# Altium footprint library WANGYU92100PcbLib.PcbLib: 392 footprints (part 4 of 25)
Each footprint in its own frame and in the unit in brackets; x right, y up, seen from the top. Pads: shape width x height; smd on the part's side, far side on the other; paste and mask are expansions set on the pad; w line width, h text height; cw(c..) or ccw(c..) is an arc to the next point about the centre after c.
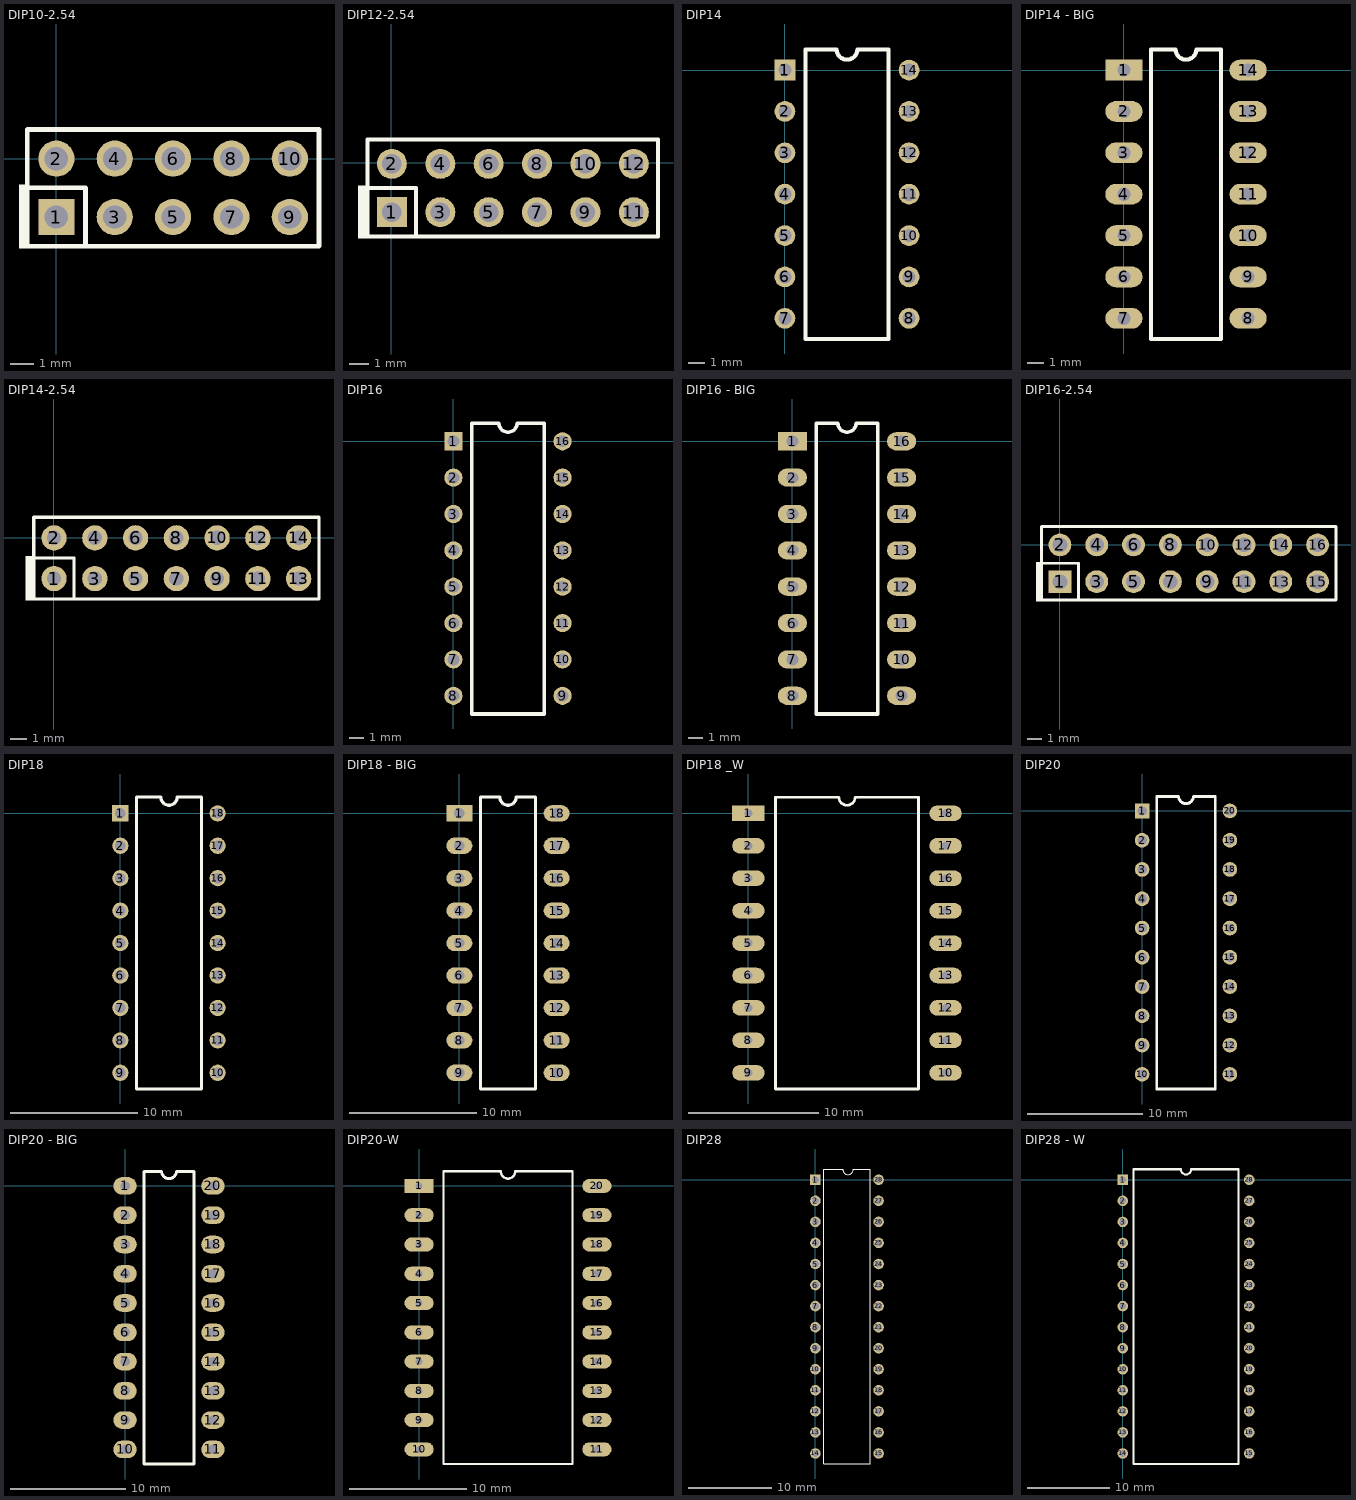
[diagram p3: the footprints below, top view; thin cyan lines are the x and y axes]

## DIP10-2.54 [mil]
pads (10):
  rect 62x62 hole 40: 1(0,-100)
  round 62 hole 40: 2(0,0) 3(100,-100) 4(100,0) 5(200,-100) 6(200,0) 7(300,-100) 8(300,0) 9(400,-100) 10(400,0)
Top Overlay:
  rectangle: -64,-154 -50,-44
  lines w8: -50,-50 50,-50 50,-150 ; -50,-150 450,-150 450,50 -50,50 -50,-150

## DIP12-2.54 [mil]
pads (12):
  rect 62x62 hole 40: 1(1,-102)
  round 62 hole 40: 2(1,-2) 3(101,-102) 4(101,-2) 5(201,-102) 6(201,-2) 7(301,-102) 8(301,-2) 9(401,-102) 10(401,-2) 11(501,-102) 12(501,-2)
Top Overlay:
  rectangle: -69,-156 -49,-47
  lines w8: -49,-52 51,-52 51,-151 ; -49,-152 -49,48 551,48 551,-152 -49,-152

## DIP14 [mil]
pads (14):
  rect 50x50 hole 32: 1(0,0)
  round 50 hole 32: 2(0,-100) 3(0,-200) 4(0,-300) 5(0,-400) 6(0,-500) 7(0,-600) 8(300,-600) 9(300,-500) 10(300,-400) 11(300,-300) 12(300,-200) 13(300,-100) 14(300,0)
Top Overlay:
  lines w10: 50,-650 250,-650 250,50 175,50 cw(c150,50) 125,50 50,50 50,-650

## DIP14 - BIG [mil]
pads (14):
  rect 90x50 hole 32: 1(0,0)
  oval 90x50 hole 32: 2(0,-100) 3(0,-200) 4(0,-300) 5(0,-400) 6(0,-500) 7(0,-600) 8(300,-600) 9(300,-500) 10(300,-400) 11(300,-300) 12(300,-200) 13(300,-100) 14(300,0)
Top Overlay:
  lines w10: 65,-650 65,50 125,50 ccw(c150,50) 175,50 235,50 235,-650 65,-650

## DIP14-2.54 [mil]
pads (14):
  round 62 hole 35: 1(1,-99.67) 2(1,0.33) 3(101,-99.67) 4(101,0.33) 5(201,-99.67) 6(201,0.33) 7(301,-99.67) 8(301,0.33) 9(401,-99.67) 10(401,0.33) 11(501,-99.67) 12(501,0.33) 13(601,-99.67) 14(601,0.33)
Top Overlay:
  rectangle: -69,-153.67 -49,-44
  lines w8: -49,-49 49,-49 50,-50 50,-148.67 49,-149.67 ; -49,-149.67 651,-149.67 651,51 -49,51 -49,-149.67

## DIP16 [mil]
pads (16):
  rect 50x50 hole 32: 1(0,0)
  round 50 hole 32: 2(0,-100) 3(0,-200) 4(0,-300) 5(0,-400) 6(0,-500) 7(0,-600) 8(0,-700) 9(300,-700) 10(300,-600) 11(300,-500) 12(300,-400) 13(300,-300) 14(300,-200) 15(300,-100) 16(300,0)
Top Overlay:
  lines w10: 50,-750 250,-750 250,50 175,50 cw(c150,50) 125,50 50,50 50,-750

## DIP16 - BIG [mil]
pads (16):
  rect 80x50 hole 32: 1(0,0)
  oval 80x50 hole 32: 2(0,-100) 3(0,-200) 4(0,-300) 5(0,-400) 6(0,-500) 7(0,-600) 8(0,-700) 9(300,-700) 10(300,-600) 11(300,-500) 12(300,-400) 13(300,-300) 14(300,-200) 15(300,-100) 16(300,0)
Top Overlay:
  lines w10: 65,-750 235,-750 235,50 175,50 cw(c150,50) 125,50 65,50 65,-750

## DIP16-2.54 [mil]
pads (16):
  rect 62x62 hole 40: 1(0,-100)
  round 62 hole 40: 2(0,0) 3(100,-100) 4(100,0) 5(200,-100) 6(200,0) 7(300,-100) 8(300,0) 9(400,-100) 10(400,0) 11(500,-100) 12(500,0) 13(600,-100) 14(600,0) 15(700,-100) 16(700,0)
Top Overlay:
  rectangle: -65,-154 -50,-46
  lines w8: -50,-50 50,-50 50,-150 ; -50,-150 -50,50 750,50 750,-150 -50,-150

## DIP18 [mil]
pads (18):
  rect 50x50 hole 32: 1(0,0)
  round 50 hole 32: 2(0,-100) 3(0,-200) 4(0,-300) 5(0,-400) 6(0,-500) 7(0,-600) 8(0,-700) 9(0,-800) 10(300,-800) 11(300,-700) 12(300,-600) 13(300,-500) 14(300,-400) 15(300,-300) 16(300,-200) 17(300,-100) 18(300,0)
Top Overlay:
  lines w10: 50,-850 50,50 125,50 ccw(c150,50) 175,50 250,50 250,-850 50,-850

## DIP18 - BIG [mil]
pads (18):
  rect 80x50 hole 32: 1(0,0)
  oval 80x50 hole 32: 2(0,-100) 3(0,-200) 4(0,-300) 5(0,-400) 6(0,-500) 7(0,-600) 8(0,-700) 9(0,-800) 10(300,-800) 11(300,-700) 12(300,-600) 13(300,-500) 14(300,-400) 15(300,-300) 16(300,-200) 17(300,-100) 18(300,0)
Top Overlay:
  lines w10: 65,-850 235,-850 235,50 175,50 cw(c150,50) 125,50 65,50 65,-850

## DIP18 _W [mm]
pads (18):
  rect 2.5x1.2 hole 0.6: 1(0,0)
  oval 2.5x1.2 hole 0.6: 2(0,-2.5) 3(0,-5) 4(0,-7.5) 5(0,-10) 6(0,-12.5) 7(0,-15) 8(0,-17.5) 9(0,-20) 10(15.2,-20) 11(15.2,-17.5) 12(15.2,-15) 13(15.2,-12.5) 14(15.2,-10) 15(15.2,-7.5) 16(15.2,-5) 17(15.2,-2.5) 18(15.2,0)
Top Overlay:
  lines w0.2: 2.085,-21.25 13.115,-21.25 13.115,1.25 8.225,1.25 cw(c7.6,1.25) 6.975,1.25 2.085,1.25 2.085,-21.25

## DIP20 [mil]
pads (20):
  rect 50x50 hole 32: 1(0,0)
  round 50 hole 32: 2(0,-100) 3(0,-200) 4(0,-300) 5(0,-400) 6(0,-500) 7(0,-600) 8(0,-700) 9(0,-800) 10(0,-900) 11(300,-900) 12(300,-800) 13(300,-700) 14(300,-600) 15(300,-500) 16(300,-400) 17(300,-300) 18(300,-200) 19(300,-100) 20(300,0)
Top Overlay:
  lines w10: 50,-950 50,50 125,50 ccw(c150,50) 175,50 250,50 250,-950 50,-950

## DIP20 - BIG [mil]
pads (20):
  oval 80x60 hole 32: 1(0,0) 2(0,-100) 3(0,-200) 4(0,-300) 5(0,-400) 6(0,-500) 7(0,-600) 8(0,-700) 9(0,-800) 10(0,-900) 11(300,-900) 12(300,-800) 13(300,-700) 14(300,-600) 15(300,-500) 16(300,-400) 17(300,-300) 18(300,-200) 19(300,-100) 20(300,0)
Top Overlay:
  lines w10: 65,-950 65,50 125,50 ccw(c150,50) 175,50 235,50 235,-950 65,-950

## DIP20-W [mm] "74HC244"
pads (20):
  rect 2.5x1.2 hole 0.6: 1(0,0)
  oval 2.5x1.2 hole 0.6: 2(0,-2.5) 3(0,-5) 4(0,-7.5) 5(0,-10) 6(0,-12.5) 7(0,-15) 8(0,-17.5) 9(0,-20) 10(0,-22.5) 11(15.2,-22.5) 12(15.2,-20) 13(15.2,-17.5) 14(15.2,-15) 15(15.2,-12.5) 16(15.2,-10) 17(15.2,-7.5) 18(15.2,-5) 19(15.2,-2.5) 20(15.2,0)
Top Overlay:
  lines w0.2: 2.085,-23.75 2.085,1.25 6.975,1.25 ccw(c7.6,1.25) 8.225,1.25 13.115,1.25 13.115,-23.75 2.085,-23.75

## DIP28 [mil]
pads (28):
  rect 50x50 hole 32: 1(0,0)
  round 50 hole 32: 2(0,-100) 3(0,-200) 4(0,-300) 5(0,-400) 6(0,-500) 7(0,-600) 8(0,-700) 9(0,-800) 10(0,-900) 11(0,-1000) 12(0,-1100) 13(0,-1200) 14(0,-1300) 15(300,-1300) 16(300,-1200) 17(300,-1100) 18(300,-1000) 19(300,-900) 20(300,-800) 21(300,-700) 22(300,-600) 23(300,-500) 24(300,-400) 25(300,-300) 26(300,-200) 27(300,-100) 28(300,0)
Top Overlay:
  lines w4: 40,-1350 40,50 130,50 ccw(c155,50) 180,50 260,50 260,-1350 40,-1350

## DIP28 - W [mil]
pads (28):
  rect 50x50 hole 32: 1(0,0)
  round 50 hole 32: 2(0,-100) 3(0,-200) 4(0,-300) 5(0,-400) 6(0,-500) 7(0,-600) 8(0,-700) 9(0,-800) 10(0,-900) 11(0,-1000) 12(0,-1100) 13(0,-1200) 14(0,-1300) 15(600,-1300) 16(600,-1200) 17(600,-1100) 18(600,-1000) 19(600,-900) 20(600,-800) 21(600,-700) 22(600,-600) 23(600,-500) 24(600,-400) 25(600,-300) 26(600,-200) 27(600,-100) 28(600,0)
Top Overlay:
  lines w10: 50,-1350 550,-1350 550,50 325,50 cw(c300,50) 275,50 50,50 50,-1350